# Altium footprint library LiyaoPCB库.PcbLib: 63 footprints (part 3 of 4)
Each footprint in its own frame and in the unit in brackets; x right, y up, seen from the top. Pads: shape width x height; smd on the part's side, far side on the other; paste and mask are expansions set on the pad; w line width, h text height; cw(c..) or ccw(c..) is an arc to the next point about the centre after c.
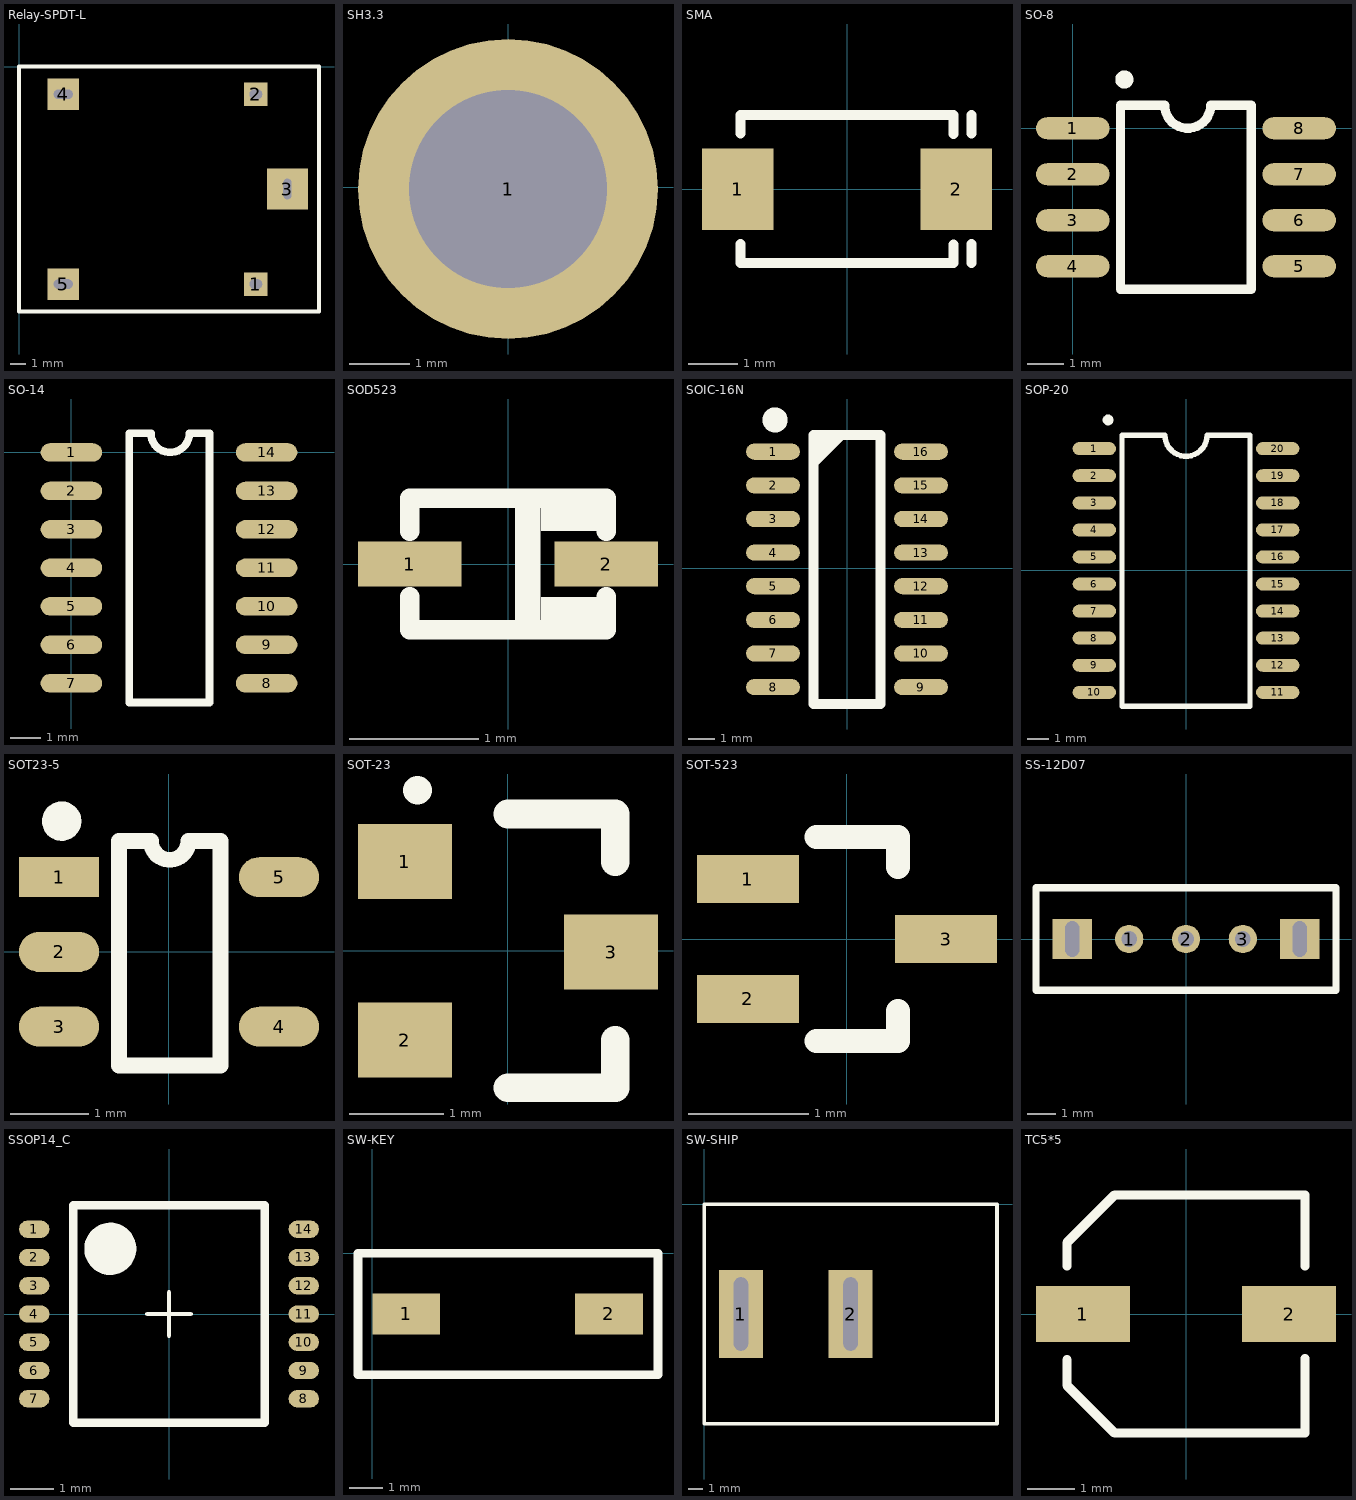
[diagram p2: the footprints below, top view; thin cyan lines are the x and y axes]

## Relay-SPDT-L [mm] "继电器5脚"
pads (5):
  rect 1.5x1.5 hole 0.6 slot 0.8 at 0 deg: 1(15,-13.775) 2(15,-1.75)
  rect 2.6x2.6 hole 0.5 slot 1.3 at 90 deg: 3(17,-7.75)
  rect 2x2 hole 0.6 slot 1.2 at 0 deg: 4(2.8,-1.75) 5(2.8,-13.775)
Top Overlay:
  lines w0.254: 0,-15.5 0,0 19,0 19,-15.5 0,-15.5

## SH3.3 [mm] "螺丝孔"
pads (1):
  round 5 hole 3.3: 1(0,-0.025)

## SMA [mm]
pads (2):
  rect 1.45x1.65 smd: 1(-2.21,0) 2(2.21,0)
Top Overlay:
  lines w0.203: -2.159,-1.5 2.159,-1.5 2.159,-1.118 ; -2.159,-1.499 -2.159,-1.116 ; -2.159,1.119 -2.159,1.501 ; -2.159,1.5 2.159,1.5 2.159,1.118 ; 2.515,-1.499 2.515,-1.116 ; 2.515,1.119 2.515,1.501

## SO-8 [mil]
pads (8):
  oval 80x24 smd: 1(0,0) 2(0,-50) 3(0,-100) 4(0,-150) 5(246.18,-150) 6(246.18,-100) 7(246.18,-50) 8(246.18,0)
Top Overlay:
  circle w9.84: c56.08,53 r4.92
  lines w10: 52,-175 194,-175 194,25 149.96,25 cw(c124.96,25) 99.96,25 52,25 52,-175

## SO-14 [mil]
pads (14):
  oval 80x24 smd: 1(0,0) 2(0,-50) 3(0,-100) 4(0,-150) 5(0,-200) 6(0,-250) 7(0,-300) 8(253.66,-300) 9(253.66,-250) 10(253.66,-200) 11(253.66,-150) 12(253.66,-100) 13(253.66,-50) 14(253.66,0)
Top Overlay:
  lines w10: 74.96,-325 74.96,25 103.35,25 ccw(c128.35,25) 153.35,25 179.53,25 179.53,-325 74.96,-325

## SOD523 [mm]
pads (2):
  rect 0.8x0.35 smd: 1(-0.762,0) 2(0.762,0)
Top Overlay:
  rectangle: 0.254,0.254 0.762,0.508
  rectangle: 0.254,-0.508 0.762,-0.254
  lines w0.15: -0.762,-0.254 -0.762,-0.508 0.762,-0.508 0.762,-0.254 ; -0.762,0.254 -0.762,0.508 0.762,0.508 0.762,0.254
  lines w0.2: 0.152,-0.432 0.152,0.457

## SOIC-16N [mil]
height 200
pads (16):
  oval 80x24 smd: 1(-110.24,173.23) 2(-110.24,123.23) 3(-110.24,73.23) 4(-110.24,23.23) 5(-110.24,-26.77) 6(-110.24,-76.77) 7(-110.24,-126.77) 8(-110.24,-176.77) 9(109.76,-176.77) 10(109.76,-126.77) 11(109.76,-76.77) 12(109.76,-26.77) 13(109.76,23.23) 14(109.76,73.23) 15(109.76,123.23) 16(109.76,173.23)
Top Overlay:
  circle w19.68: c-107.23,220.47 r8.8
  region: -43.31,192.91 -3.94,192.91 -43.31,153.54
  lines w15: -50.24,-201.77 -50.24,198.23 49.76,198.23 49.76,-201.77 -50.24,-201.77

## SOP-20 [mil]
pads (20):
  oval 80x24 smd: 1(-169.29,225) 2(-169.29,175) 3(-169.29,125) 4(-169.29,75) 5(-169.29,25) 6(-169.29,-25) 7(-169.29,-75) 8(-169.29,-125) 9(-169.29,-175) 10(-169.29,-225) 11(169.29,-225) 12(169.29,-175) 13(169.29,-125) 14(169.29,-75) 15(169.29,-25) 16(169.29,25) 17(169.29,75) 18(169.29,125) 19(169.29,175) 20(169.29,225)
Top Overlay:
  circle w9.84: c-143.92,278 r4.92
  lines w10: -118.11,-251 -118.11,250 -39,250 ccw(c0,250) 39,250 118.11,250 118.11,-251 -118.11,-251

## SOT23-5 [mil] "SOT23, 5-Leads, Body 3.1x3.0mm (max), Pitch 0.95mm, IPC Medium Density"
height 43.31
pads (5):
  rect 40x20 smd: 1(-55,37.4)
  oval 40x20 smd: 2(-55,0) 3(-55,-37.4) 4(55,-37.4) 5(55,37.4)
Top Overlay:
  circle w9.84: c-53.66,65.4 r4.92
  lines w7.87: -25,55.4 -25,-56.8 25.7,-56.8 25.7,55.4 ; -9,55.4 ccw(c0.35,55.4) 9.7,55.4
  lines w8: -25,55.4 -9,55.4 ; 9.7,55.4 25.7,55.4

## SOT-23 [mm]
pads (3):
  rect 1x0.8 smd: 1(-1.1,0.953) 2(-1.1,-0.953) 3(1.1,-0.013)
Top Overlay:
  lines w0.305: 0,-1.46 1.143,-1.46 1.143,-0.953 ; 0,1.46 1.143,1.46 1.143,0.952 ; -0.965,1.714 -0.965,1.714

## SOT-523 [mm] "SOT23, 3-Leads, Body 1.7x1.8mm (max), Pitch 0.50mm, IPC Medium Density"
height 0.9
pads (3):
  rect 0.85x0.4 smd: 1(-0.825,0.5) 2(-0.825,-0.5) 3(0.825,0)
Top Overlay:
  lines w0.2: -0.254,-0.85 0.425,-0.85 0.425,-0.6 ; -0.254,0.85 0.425,0.85 0.425,0.6

## SS-12D07 [mm] "拨动开关"
pads (5):
  round 1 hole 0.55: 1(-2,0) 2(0,0) 3(2,0)
  rect 1.4x1.4 hole 0.5 slot 1.25 at 90 deg: ""(-4,0) ""(4,0)
Top Overlay:
  lines w0.254: -5.275,-1.8 -5.275,1.8 5.275,1.8 5.275,-1.8 -5.275,-1.8

## SSOP14_C [mm] "SOP, 16-Leads, Body 6.2x5.3mm, Pitch 0.65mm, IPC High Density"
height 2
pads (14):
  oval 0.7x0.4 smd: 1(-3.1,1.95) 2(-3.1,1.3) 3(-3.1,0.65) 4(-3.1,0) 5(-3.1,-0.65) 6(-3.1,-1.3) 7(-3.1,-1.95) 8(3.1,-1.95) 9(3.1,-1.3) 10(3.1,-0.65) 11(3.1,0) 12(3.1,0.65) 13(3.1,1.3) 14(3.1,1.95)
Top Overlay:
  circle w0.6: c-1.35,1.5 r0.3
  lines w0.1: -0.5,0 0.5,0 ; 0,-0.5 0,0.5
  lines w0.2: -2.2,-2.5 -2.2,2.5 2.2,2.5 2.2,-2.5 -2.2,-2.5
Mechanical 13:
  circle w0.1: c-1.375,1.5 r0.5
3D body: height 2, standoff 0, extent -2.075,-2.4 2.1,2.375

## SW-KEY [mm] "RESET按钮"
pads (2):
  rect 2x1.2 smd: 1(1,-1.8) 2(7,-1.8)
Top Overlay:
  lines w0.254: -0.425,-3.6 -0.425,0 8.45,0 8.45,-3.6 -0.425,-3.6

## SW-SHIP [mm] "船型开关"
height 10
pads (2):
  rect 3x6 hole 1 slot 5 at 90 deg: 1(2.5,-7.5) 2(10,-7.5)
Top Overlay:
  lines w0.254: 0,-15 20,-15 20,0 0,0 0,-15

## TC5*5 [mm]
height 0.65
pads (2):
  rect 2x1.2 smd: 1(-2.2,0) 2(2.2,0)
Top Overlay:
  lines w0.2: -2.54,-0.975 -2.54,-1.524 -1.524,-2.54 2.54,-2.54 2.54,-0.95 ; -2.54,1.025 -2.54,1.524 -1.524,2.54 2.54,2.54 2.54,1.025